# EAGLE library part STM8S003F3 (library STM8S003F3)
STM8S003F3 - Mainstream Value line 8-bit MCU with 8 Kbytes Flash, 16 MHz CPU, integrated EEPROM
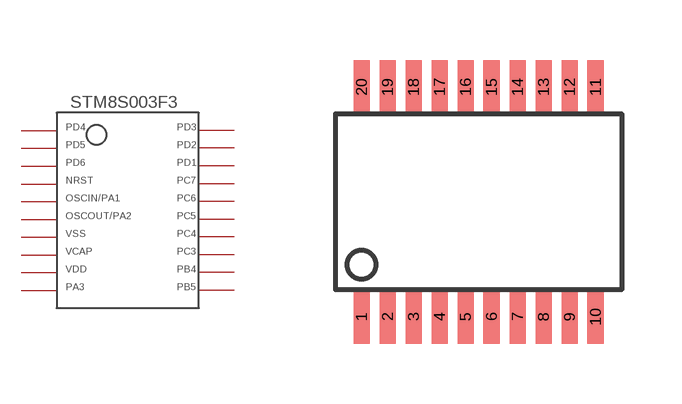
[diagram p0: symbol with the pads of TSSOP-20; footprint TSSOP-20]

Designator prefix -

## STM8S003F3  [TSSOP-20]
1  1
2  2
3  3
4  4
5  5
6  6
7  7
8  8
9  9
10  10
11  11
12  12
13  13
14  14
15  15
16  16
17  17
18  18
19  19
20  20

## Footprint TSSOP-20 (pad centres in mm)
smd 0.4 x 1.35: 1 0,0; 2 0.65,0; 3 1.3,0; 4 1.95,0; 5 2.6,0; 6 3.25,0; 7 3.9,0; 8 4.55,0; 9 5.2,0; 10 5.85,0; 11 5.85,5.75; 12 5.2,5.75; 13 4.55,5.75; 14 3.9,5.75; 15 3.25,5.75; 16 2.6,5.75; 17 1.95,5.75; 18 1.3,5.75; 19 0.65,5.75; 20 0,5.75